# EAGLE library part 750030444 (library Wurth Electronics Midcom Inc - EAGLE Lib V2-1)
Package Style: EFD25 Mounting: THT Pins: 10 pins Bobbin: 070-2710 Best pinouts for production vary per application. Please contact Wurth Electronics Midcom, Inc. for assistance with your custom design. Website: Wurth Electronics Midcom <http://www.we-online.com/midcom> Contact us Wurth Electronics Midcom, Inc. 121 Airport Dr. Watertown, SD 57201 Phone: (605) 886-4385 Fax: (605) 886-4486 E-Mail: midcom@we-online.com
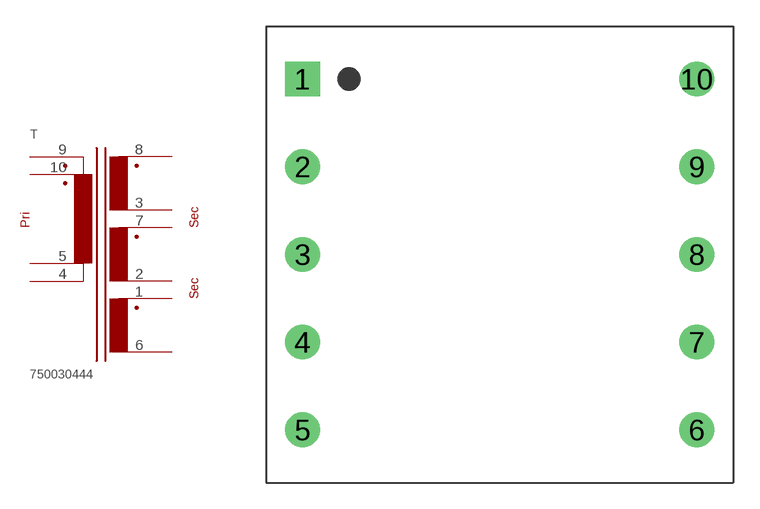
[diagram p393: symbol with the pads of EFD25_THT_H_10PIN_(2710); footprint EFD25_THT_H_10PIN_(2710)]

Designator prefix T

## 750030444  [EFD25_THT_H_10PIN_(2710)]
1  1  pas
2  2  pas
3  3  pas
4  4  pas
5  5  pas
6  6  pas
7  7  pas
8  8  pas
9  9  pas
10  10  pas

## Footprint EFD25_THT_H_10PIN_(2710) (pad centres in mm)
Package Style: EFD25 Mounting: THT Pins: 10 Bobbin: 070-2710
drill 1.321 square: 1 -11.252,10.008
drill 1.321: 2 -11.252,5.004; 3 -11.252,0; 4 -11.252,-5.004; 5 -11.252,-10.008; 6 11.252,-10.008; 7 11.252,-5.004; 8 11.252,0; 9 11.252,5.004; 10 11.252,10.008